# EAGLE library part MOC3012M (library IC)
OPTOISOLATOR 4.17KV TRIAC 6DIP Manufacturer's datasheet <https://www.onsemi.com/pub/Collateral/MOC3023M-D.PDF>
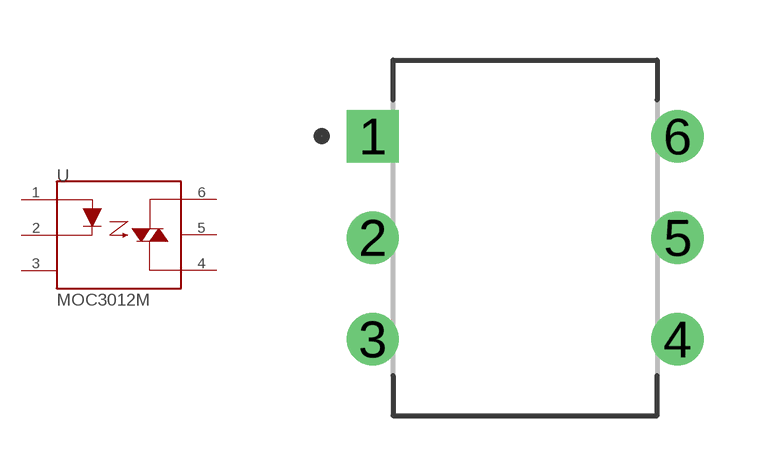
[diagram p29: symbol with the pads of MOC3012M; footprint MOC3012M]

Designator prefix U

## MOC3012M (CREATED_BY: PCBLayout.com; DIGIKEY_PARTNO: MOC3012M-ND; MANUFACTURER: ON Semiconductor; MPN: MOC3012M; PACKAGE: DIP-06)  [MOC3012M]
1  ANODE  pas
2  CATHODE  pas
3  NC  nc
4  MT1  pas
5  NC1  nc
6  MT2  pas

## Footprint MOC3012M (pad centres in mm)
drill 0.8 square: 1 -3.81,2.54
drill 0.8: 2 -3.81,0; 3 -3.81,-2.54; 4 3.81,-2.54; 5 3.81,0; 6 3.81,2.54